# Altium footprint library PcbLib1.PcbLib: 26 footprints (part 1 of 2)
Each footprint in its own frame and in the unit in brackets; x right, y up, seen from the top. Pads: shape width x height; smd on the part's side, far side on the other; paste and mask are expansions set on the pad; w line width, h text height; cw(c..) or ccw(c..) is an arc to the next point about the centre after c.
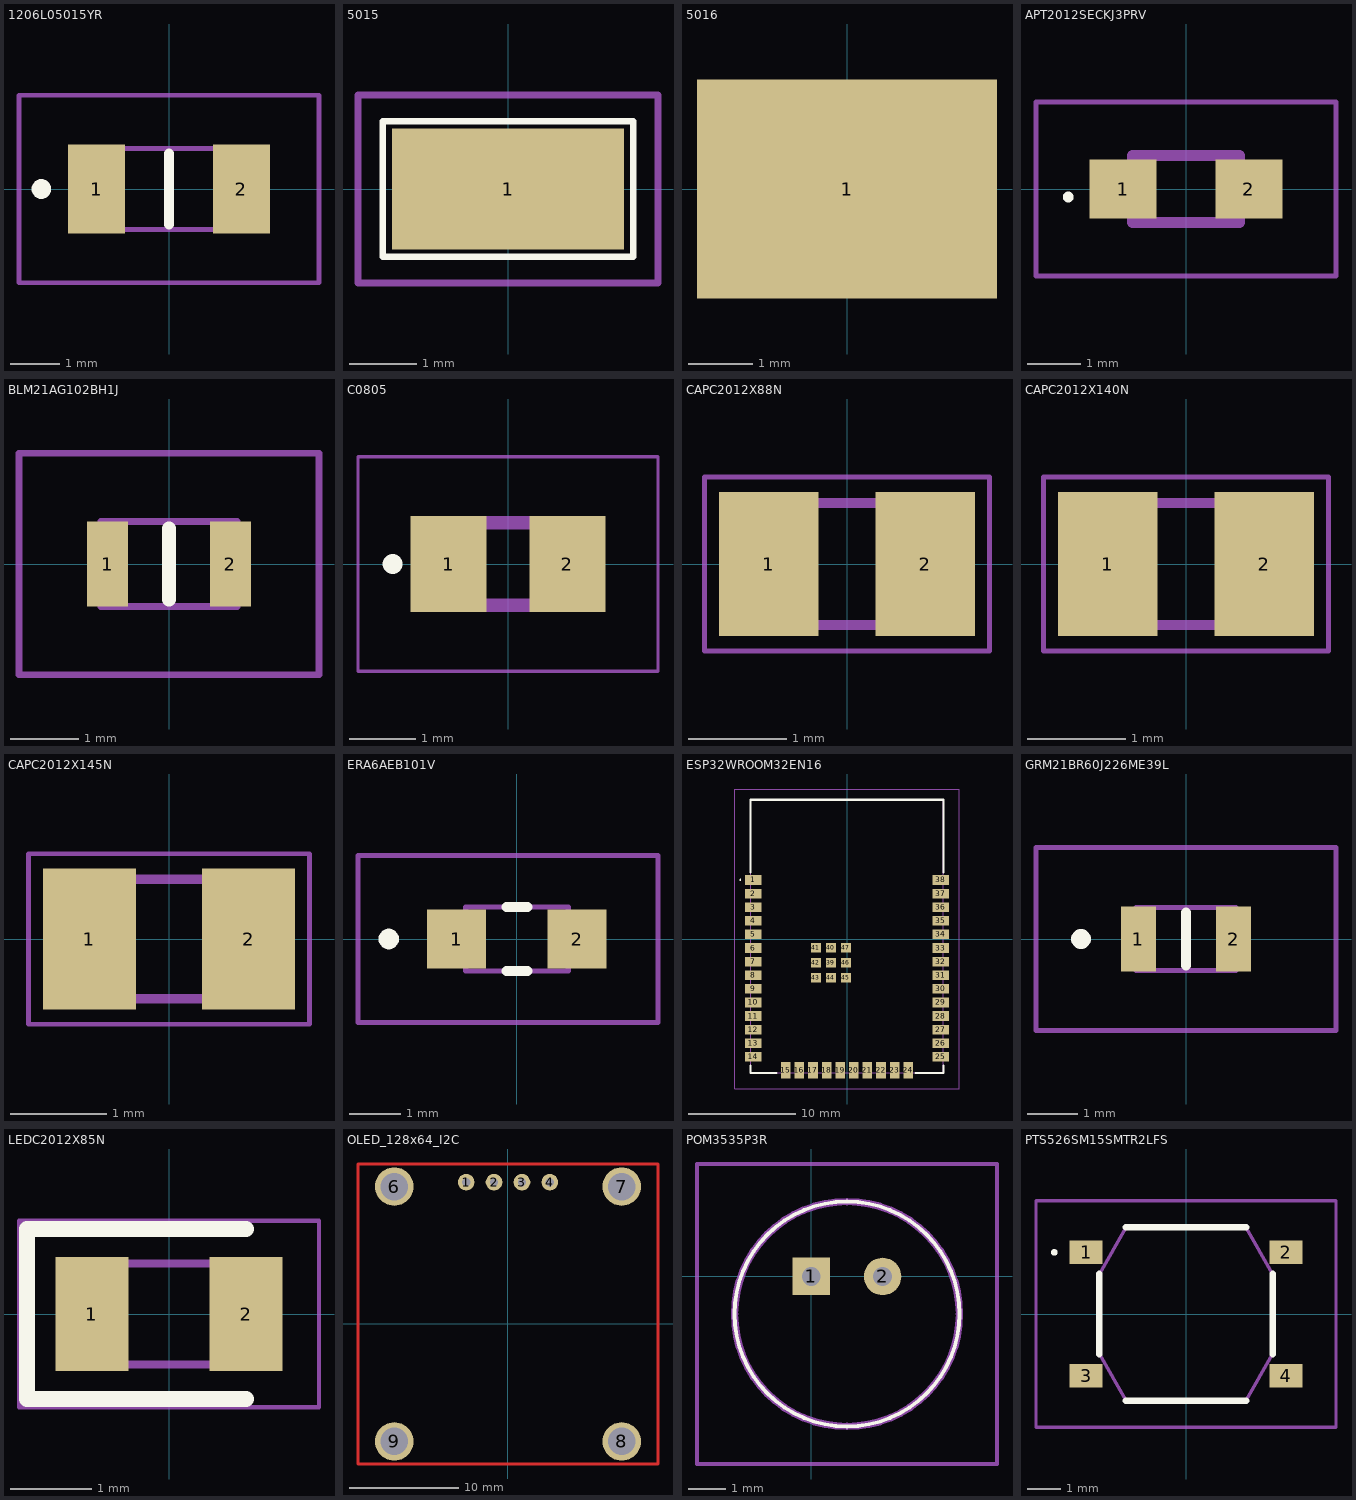
[diagram p0: the footprints below, top view; thin cyan lines are the x and y axes]

## 1206L05015YR [mm]
pads (2):
  rect 1.16x1.82 smd: 1(-1.475,0) 2(1.475,0)
Top Overlay:
  lines w0.2: 0,-0.725 0,0.725 ; -2.6,-0.1 cw(c-2.6,0) -2.6,0.1 cw(c-2.6,0) -2.6,-0.1
Mechanical 13:
  lines w0.1: -1.6,-0.825 1.6,-0.825 1.6,0.825 -1.6,0.825 -1.6,-0.825
Mechanical 15:
  lines w0.1: -3.055,-1.91 3.055,-1.91 3.055,1.91 -3.055,1.91 -3.055,-1.91
3D body "1206L050YR.stp": height 0.75, standoff 0, extent -1.6,-0.827 1.6,0.827

## 5015 [mm]
pads (1):
  rect 3.43x1.78 smd: 1(0,0)
Top Overlay:
  lines w0.1: -1.85,-1 1.85,-1 1.85,1 -1.85,1 -1.85,-1
Mechanical 13:
  lines w0.2: -1.335,-0.51 1.335,-0.51 1.335,0.51 -1.335,0.51 -1.335,-0.51
Mechanical 15:
  lines w0.1: -2.215,-1.39 2.215,-1.39 2.215,1.39 -2.215,1.39 -2.215,-1.39
3D body "5015.stp": height 1.5, standoff 0, extent -1.35,-0.5 1.349,0.5

## 5016 [mm]
pads (1):
  rect 4.7x3.43 smd: 1(0,0)
Mechanical 13:
  lines w0.2: -1.905,-1.42 -1.905,1.42 1.905,1.42 1.905,-1.42 -1.905,-1.42
3D body "5016.stp": height 2.89, standoff 0.05, extent -1.875,-0.01 1.935,2.276

## APT2012SECKJ3PRV [mm]
pads (2):
  rect 1.25x1.1 smd: 1(-1.175,0) 2(1.175,0)
Top Overlay:
  lines w0.1: -2.2,-0.2 cw(c-2.2,-0.15) -2.2,-0.1 cw(c-2.2,-0.15) -2.2,-0.2
Mechanical 13:
  lines w0.2: -1,-0.625 -1,0.625 1,0.625 1,-0.625 -1,-0.625
Mechanical 15:
  lines w0.1: -2.8,-1.625 -2.8,1.625 2.8,1.625 2.8,-1.625 -2.8,-1.625
3D body "APT2012SECK_J3-PRV.stp": height 0.75, standoff 0, extent -1,-0.625 1,0.625

## BLM21AG102BH1J [mm]
pads (2):
  rect 0.6x1.25 smd: 1(-0.9,0) 2(0.9,0)
Top Overlay:
  lines w0.2: 0,-0.525 0,0.525
Mechanical 13:
  lines w0.1: -1,-0.625 -1,0.625 1,0.625 1,-0.625 -1,-0.625
Mechanical 15:
  lines w0.1: -2.2,-1.625 -2.2,1.625 2.2,1.625 2.2,-1.625 -2.2,-1.625
3D body "BLM21PG121SN1D.stp": height 0.85, standoff 0, extent -1,-0.625 1,0.625

## C0805 [mm]
pads (2):
  rect 1.15x1.45 smd: 1(-0.9,0) 2(0.9,0)
Top Overlay:
  circle w0.2: c-1.75,0 r0.05
Mechanical 13:
  lines w0.2: -1,-0.625 1,-0.625 1,0.625 -1,0.625 -1,-0.625
Mechanical 15:
  lines w0.05: -2.275,-1.625 2.275,-1.625 2.275,1.625 -2.275,1.625 -2.275,-1.625
3D body "C0805C225K8PACTU.stp": height 0.98, standoff 0, extent -1.15,-0.78 1.15,0.77

## CAPC2012X88N [mm]
pads (2):
  rect 1.02x1.47 smd: 1(-0.8,0) 2(0.8,0)
Mechanical 13:
  lines w0.1: -1,-0.625 1,-0.625 1,0.625 -1,0.625 -1,-0.625
Mechanical 15:
  lines w0.05: -1.46,-0.89 1.46,-0.89 1.46,0.89 -1.46,0.89 -1.46,-0.89
3D body "C0805C104K5RAC-TU.stp": height 0.88, standoff 0, extent -1.1,-0.73 1.1,0.72

## CAPC2012X140N [mm]
pads (2):
  rect 1.02x1.47 smd: 1(-0.8,0) 2(0.8,0)
Mechanical 13:
  lines w0.1: -1,-0.625 -1,0.625 1,0.625 1,-0.625 -1,-0.625
Mechanical 15:
  lines w0.05: -1.46,-0.89 -1.46,0.89 1.46,0.89 1.46,-0.89 -1.46,-0.89
3D body "C0805C106K8PACTU-2.5.stp": height 1.4, standoff 0, extent -1.1,-0.73 1.1,0.72

## CAPC2012X145N [mm]
pads (2):
  rect 0.97x1.47 smd: 1(-0.83,0) 2(0.83,0)
Mechanical 13:
  lines w0.1: -1,-0.625 1,-0.625 1,0.625 -1,0.625 -1,-0.625
Mechanical 15:
  lines w0.05: -1.465,-0.89 1.465,-0.89 1.465,0.89 -1.465,0.89 -1.465,-0.89
3D body "GRM21BR71A105KA01L.stp": height 1.45, standoff 0, extent -1,-0.625 1,0.625

## ERA6AEB101V [mm]
pads (2):
  rect 1.15x1.15 smd: 1(-1.175,0) 2(1.175,0)
Top Overlay:
  lines w0.2: -0.2,-0.625 0.2,-0.625 ; -0.2,0.625 0.2,0.625 ; -2.5,-0.1 cw(c-2.5,0) -2.5,0.1 cw(c-2.5,0) -2.5,-0.1
Mechanical 13:
  lines w0.1: -1,-0.625 1,-0.625 1,0.625 -1,0.625 -1,-0.625
Mechanical 15:
  lines w0.1: -3.1,-1.625 2.75,-1.625 2.75,1.625 -3.1,1.625 -3.1,-1.625
3D body "ERA-6AED103V.stp": height 0.5, standoff 0, extent -1,-0.625 1,0.625

## ESP32WROOM32EN16 [mm]
pads (47):
  rect 1.5x0.9 smd: 1(-8.75,5.51) 2(-8.75,4.24) 3(-8.75,2.97) 4(-8.75,1.7) 5(-8.75,0.43) 6(-8.75,-0.84) 7(-8.75,-2.11) 8(-8.75,-3.38) 9(-8.75,-4.65) 10(-8.75,-5.92) 11(-8.75,-7.19) 12(-8.75,-8.46) 13(-8.75,-9.73) 14(-8.75,-11) 25(8.75,-11) 26(8.75,-9.73) 27(8.75,-8.46) 28(8.75,-7.19) 29(8.75,-5.92) 30(8.75,-4.65) 31(8.75,-3.38) 32(8.75,-2.11) 33(8.75,-0.84) 34(8.75,0.43) 35(8.75,1.7) 36(8.75,2.97) 37(8.75,4.24) 38(8.75,5.51)
  rect 0.9x1.5 smd: 15(-5.715,-12.25) 16(-4.445,-12.25) 17(-3.175,-12.25) 18(-1.905,-12.25) 19(-0.635,-12.25) 20(0.635,-12.25) 21(1.905,-12.25) 22(3.175,-12.25) 23(4.445,-12.25) 24(5.715,-12.25)
  rect 0.9x0.9 smd: 39(-1.5,-2.21) 40(-1.5,-0.81) 41(-2.9,-0.81) 42(-2.9,-2.21) 43(-2.9,-3.61) 44(-1.5,-3.61) 45(-0.1,-3.61) 46(-0.1,-2.21) 47(-0.1,-0.81)
Top Overlay:
  lines w0.1: -10,5.51 cw(c-9.95,5.51) -9.9,5.51 cw(c-9.95,5.51) -10,5.51
  lines w0.2: -9,-11.8 -9,-12.5 -6.6,-12.5 ; -9,6.2 -9,13 9,13 9,6.2 ; 6.4,-12.5 9,-12.5 9,-11.8
Mechanical 13:
  lines w0.1: -9,-12.5 -9,13 9,13 9,-12.5 -9,-12.5
Mechanical 15:
  lines w0.1: -10.5,-14 -10.5,14 10.5,14 10.5,-14 -10.5,-14
3D body "ESP32-WROOM-32E-N16.stp": height 4.05, standoff 0, extent -9,-12.75 9,12.75

## GRM21BR60J226ME39L [mm]
pads (2):
  rect 0.7x1.3 smd: 1(-0.95,0) 2(0.95,0)
Top Overlay:
  lines w0.2: 0,-0.525 0,0.525 ; -2.1,-0.1 cw(c-2.1,0) -2.1,0.1 cw(c-2.1,0) -2.1,-0.1
Mechanical 13:
  lines w0.1: -1,-0.625 1,-0.625 1,0.625 -1,0.625 -1,-0.625
Mechanical 15:
  lines w0.1: -3,-1.825 3,-1.825 3,1.825 -3,1.825 -3,-1.825
3D body "GRM21BR61A105KA01L.stp": height 1, standoff 0, extent -1,-0.625 1,0.625

## LEDC2012X85N [mm]
pads (2):
  rect 0.9x1.4 smd: 1(-0.95,0) 2(0.95,0)
Top Overlay:
  lines w0.2: 0.95,-1.05 -1.75,-1.05 -1.75,1.05 0.95,1.05
Mechanical 13:
  lines w0.1: -1,0.208 -0.583,0.625 ; -1,-0.625 -1,0.625 1,0.625 1,-0.625 -1,-0.625
Mechanical 15:
  lines w0.05: -1.85,-1.15 -1.85,1.15 1.85,1.15 1.85,-1.15 -1.85,-1.15

## OLED_128x64_I2C [mm] "WEA012864DWPP3N00003"
pads (8):
  round 1.524 hole 0.762: 1(-3.81,12.893) 2(-1.27,12.893) 3(1.27,12.893) 4(3.81,12.893)
  round 3.5 hole 2.5: 6(-10.35,12.493) 7(10.35,12.493) 8(10.35,-10.707) 9(-10.35,-10.707)
Top Layer:
  lines w0.254: -13.65,-12.757 -13.65,14.543 13.65,14.543 13.65,-12.757 -13.65,-12.757
3D body "WEA012864DWPP3N00003.stp": height 1.37, standoff -8.5, extent -13.65,-12.757 13.65,14.543

## POM3535P3R [mm]
pads (2):
  rect 1x1 hole 0.5: 1(0,0)
  round 1 hole 0.5: 2(1.9,0)
Top Overlay:
  lines w0.1: -2.05,-1 cw(c0.95,-1) 3.95,-1 cw(c0.95,-1) -2.05,-1
Mechanical 13:
  lines w0.2: -2.05,-1 cw(c0.95,-1) 3.95,-1 cw(c0.95,-1) -2.05,-1
Mechanical 15:
  lines w0.1: -3.05,-5 -3.05,3 4.95,3 4.95,-5 -3.05,-5
3D body "POM-3535P-3-R.stp": height 4.1, standoff -5, extent -2.05,-4 3.95,2

## PTS526SM15SMTR2LFS [mm]
pads (4):
  rect 1x0.7 smd: 1(-3,1.85) 2(3,1.85) 3(-3,-1.85) 4(3,-1.85)
Top Overlay:
  lines w0.1: -4,1.85 cw(c-3.95,1.85) -3.9,1.85 cw(c-3.95,1.85) -4,1.85
  lines w0.2: -2.6,-1.2 -2.6,1.2 ; -1.8,-2.6 1.8,-2.6 ; -1.8,2.6 1.8,2.6 ; 2.6,-1.2 2.6,1.2
Mechanical 13:
  lines w0.1: -2.6,-1.2 -2.6,1.2 -1.8,2.6 0,2.6 1.8,2.6 2.6,1.2 2.6,-1.2 1.8,-2.6 -1.8,-2.6 -2.6,-1.2
Mechanical 15:
  lines w0.1: -4.5,-3.4 4.5,-3.4 4.5,3.4 -4.5,3.4 -4.5,-3.4
3D body "PTS526SM15SMTR2_LFS.stp": height 1.55, standoff 0, extent -3.2,-2.55 3.2,2.55